# EAGLE library part INA126 (library INA126)
Instrumentation Amplifier Micropower, Single and Dual Versions Check availability <https://pricing.snapeda.com/parts/INA126/Texas%20Instruments/view-part?ref=eda>
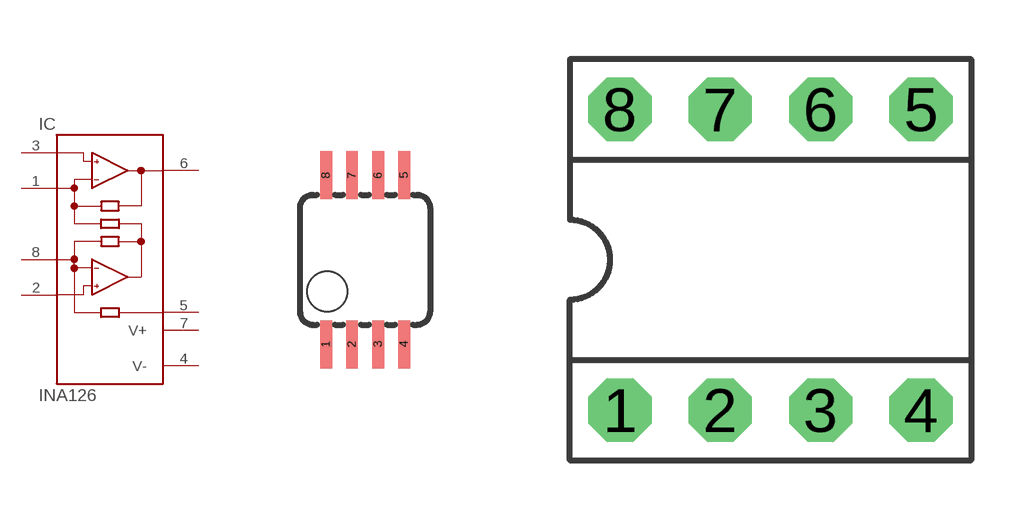
[diagram p0: symbol with the pads of MSOP08; footprints MSOP08, DIL08]

Designator prefix IC

## INA126E (Availability: In Stock; Description: Instrumentation Amplifier 1 Circuit - 8-VSSOP; MF: Texas Instruments; MP: INA126; Package: - Texas Instruments; Price: None; Purchase-URL: https://pricing.snapeda.com/search/part/INA126/?ref=eda)  [MSOP08]
1  RG  pas
2  -IN  in
3  +IN  in
4  V-  pwr
5  REF  pas
6  OUT  out
7  V+  pwr
8  RG  pas

## INA126P (Availability: In Stock; Description: Instrumentation Amplifier 1 Circuit - 8-VSSOP; MF: Texas Instruments; MP: INA126; Package: - Texas Instruments; Price: None; Purchase-URL: https://pricing.snapeda.com/search/part/INA126/?ref=eda)  [DIL08]
Pads as for MSOP08

## INA126U (Availability: In Stock; Description: Instrumentation Amplifier 1 Circuit - 8-VSSOP; MF: Texas Instruments; MP: INA126; Package: - Texas Instruments; Price: None; Purchase-URL: https://pricing.snapeda.com/search/part/INA126/?ref=eda)  [SO08]
Pads as for MSOP08

## Footprint MSOP08 (pad centres in mm)
Mini Small Outline Package
smd 0.3 x 1.2: 1 -0.976,-2.113; 2 -0.326,-2.113; 3 0.324,-2.113; 4 0.974,-2.113; 5 0.974,2.112; 6 0.324,2.112; 7 -0.326,2.112; 8 -0.976,2.112

## Footprint DIL08 (pad centres in mm)
Dual In Line
drill 0.813 pad 1.6 octagon: 1 -3.81,-3.81; 2 -1.27,-3.81; 3 1.27,-3.81; 4 3.81,-3.81; 5 3.81,3.81; 6 1.27,3.81; 7 -1.27,3.81; 8 -3.81,3.81

## Footprint SO08 (pad centres in mm)
Small Outline Package
smd 0.61 x 2.21: 1 -1.905,-2.616; 2 -0.635,-2.616; 3 0.635,-2.616; 4 1.905,-2.616; 5 1.905,2.616; 6 0.635,2.616; 7 -0.635,2.616; 8 -1.905,2.616